# EAGLE library part ESP_C6_M (library nicolas)
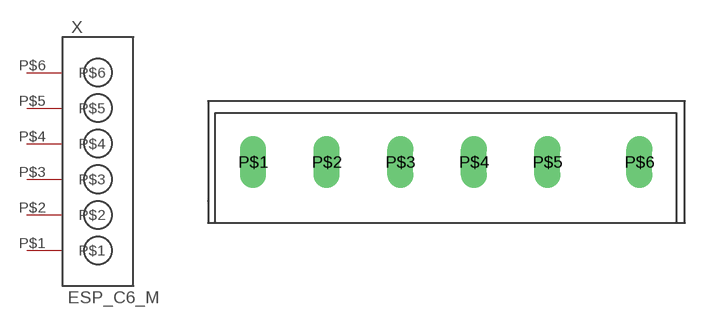
[diagram p1: symbol with the pads of ESP-CONNECT-6; footprint ESP-CONNECT-6]

Designator prefix X

## ESP_C6_M  [ESP-CONNECT-6]
P$1  P$1
P$2  P$2
P$3  P$3
P$4  P$4
P$5  P$5
P$6  P$6

## Footprint ESP-CONNECT-6 (pad centres in mm)
drill 1.2 long: P$1 0,0; P$2 5.08,0; P$3 10.16,0; P$4 15.24,0; P$5 20.32,0; P$6 26.67,0